# Altium schematic symbol library TS30042-M050QFNR.SchLib: 1 symbol
Pins are listed as number, name and electrical type; pins without a type are passive.

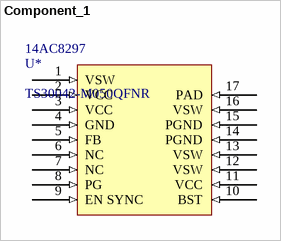
[diagram p0: symbol Component_1]

## Component_1
designator U*, comment TS30042-M050QFNR  Supplier Part Number 1: 14AC8297
Supplier 1: Newark
footprint *QFN50P300X300X100-17N
pins: 1 VSW (in), 2 VCC (in), 3 VCC (in), 4 GND (in), 5 FB (in), 6 NC (in), 7 NC (in), 8 PG (in), 9 EN SYNC (in), 10 BST (in), 11 VCC (in), 12 VSW (in), 13 VSW (in), 14 PGND (in), 15 PGND (in), 16 VSW (in), 17 PAD (in)